# EAGLE library part LPC11A14FBD48/301 (library LPC11A14FBD48)
32-bit ARM Cortex-M0 microcontroller,LQFP-48
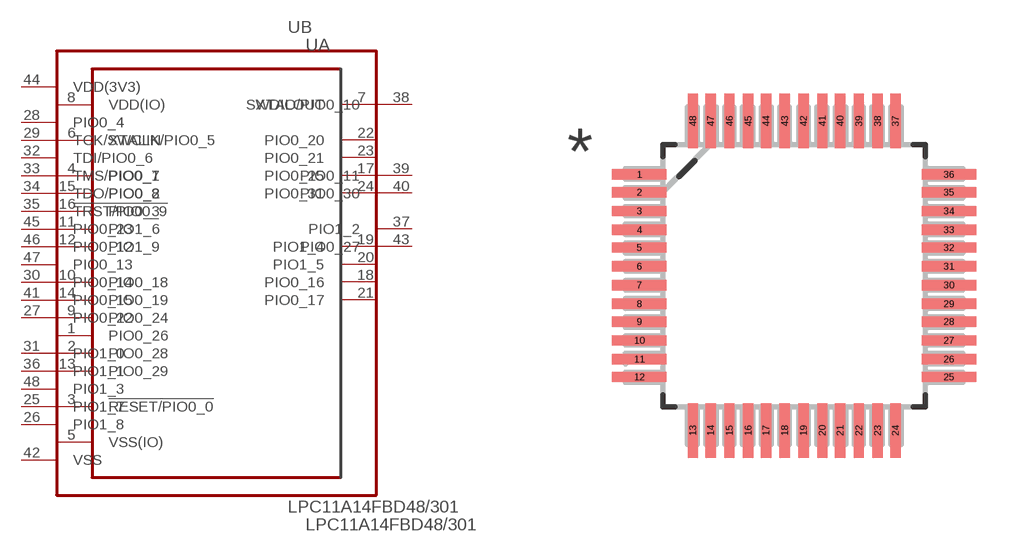
[diagram p0: symbol with the pads of QFP50P900X900X160-48N; footprint QFP50P900X900X160-48N]

Designator prefix U; gates A=LPC11A14FBD48/301_A B=LPC11A14FBD48/301_B

## LPC11A14FBD48/301 (MPN: LPC11A14FBD48/301; OC_FARNELL: 2115641; OC_NEWARK: 24W5327; PACKAGE: LQFP-48; SUPPLIER: NXP)  [QFP50P900X900X160-48N]
1  A:PIO0_26
2  A:PIO0_28
3  A:!RESET/PIO0_0
4  A:PIO0_1
5  A:VSS(IO)  pas
6  A:XTALIN  in
7  A:XTALOUT  out
8  A:VDD(IO)  pwr
9  A:PIO0_24
10  A:PIO0_18
11  A:PIO1_6
12  A:PIO1_9
13  A:PIO0_29
14  A:PIO0_19
15  A:PIO0_2
16  A:PIO0_3
17  A:PIO0_25
18  A:PIO0_16
19  A:PIO1_4
20  A:PIO1_5
21  A:PIO0_17
22  A:PIO0_20
23  A:PIO0_21
24  A:PIO0_31
25  B:PIO1_7
26  B:PIO1_8
27  B:PIO0_22
28  B:PIO0_4
29  B:TCK/SWCLK/PIO0_5
30  B:PIO0_14
31  B:PIO1_0
32  B:TDI/PIO0_6
33  B:TMS/PIO0_7
34  B:TDO/PIO0_8
35  B:!TRST/PIO0_9
36  B:PIO1_1
37  B:PIO1_2
38  B:SWDIO/PIO0_10
39  B:PIO0_11
40  B:PIO0_30
41  B:PIO0_15
42  B:VSS  pas
43  B:PIO0_27
44  B:VDD(3V3)  pwr
45  B:PIO0_23
46  B:PIO0_12
47  B:PIO0_13
48  B:PIO1_3

## Footprint QFP50P900X900X160-48N (pad centres in mm)
smd 1.473 x 0.279: 1 -4.191,2.743; 2 -4.191,2.261; 3 -4.191,1.753; 4 -4.191,1.245; 5 -4.191,0.762; 6 -4.191,0.254; 7 -4.191,-0.254; 8 -4.191,-0.762; 9 -4.191,-1.245; 10 -4.191,-1.753; 11 -4.191,-2.261; 12 -4.191,-2.743; 25 4.191,-2.743; 26 4.191,-2.261; 27 4.191,-1.753; 28 4.191,-1.245; 29 4.191,-0.762; 30 4.191,-0.254; 31 4.191,0.254; 32 4.191,0.762; 33 4.191,1.245; 34 4.191,1.753; 35 4.191,2.261; 36 4.191,2.743
smd 0.279 x 1.473: 13 -2.743,-4.191; 14 -2.261,-4.191; 15 -1.753,-4.191; 16 -1.245,-4.191; 17 -0.762,-4.191; 18 -0.254,-4.191; 19 0.254,-4.191; 20 0.762,-4.191; 21 1.245,-4.191; 22 1.753,-4.191; 23 2.261,-4.191; 24 2.743,-4.191; 37 2.743,4.191; 38 2.261,4.191; 39 1.753,4.191; 40 1.245,4.191; 41 0.762,4.191; 42 0.254,4.191; 43 -0.254,4.191; 44 -0.762,4.191; 45 -1.245,4.191; 46 -1.753,4.191; 47 -2.261,4.191; 48 -2.743,4.191